# Altium integrated library myIntegratedLibrary1.IntLib: 24 symbols
Pins are listed as number, name and electrical type; pins without a type are passive.

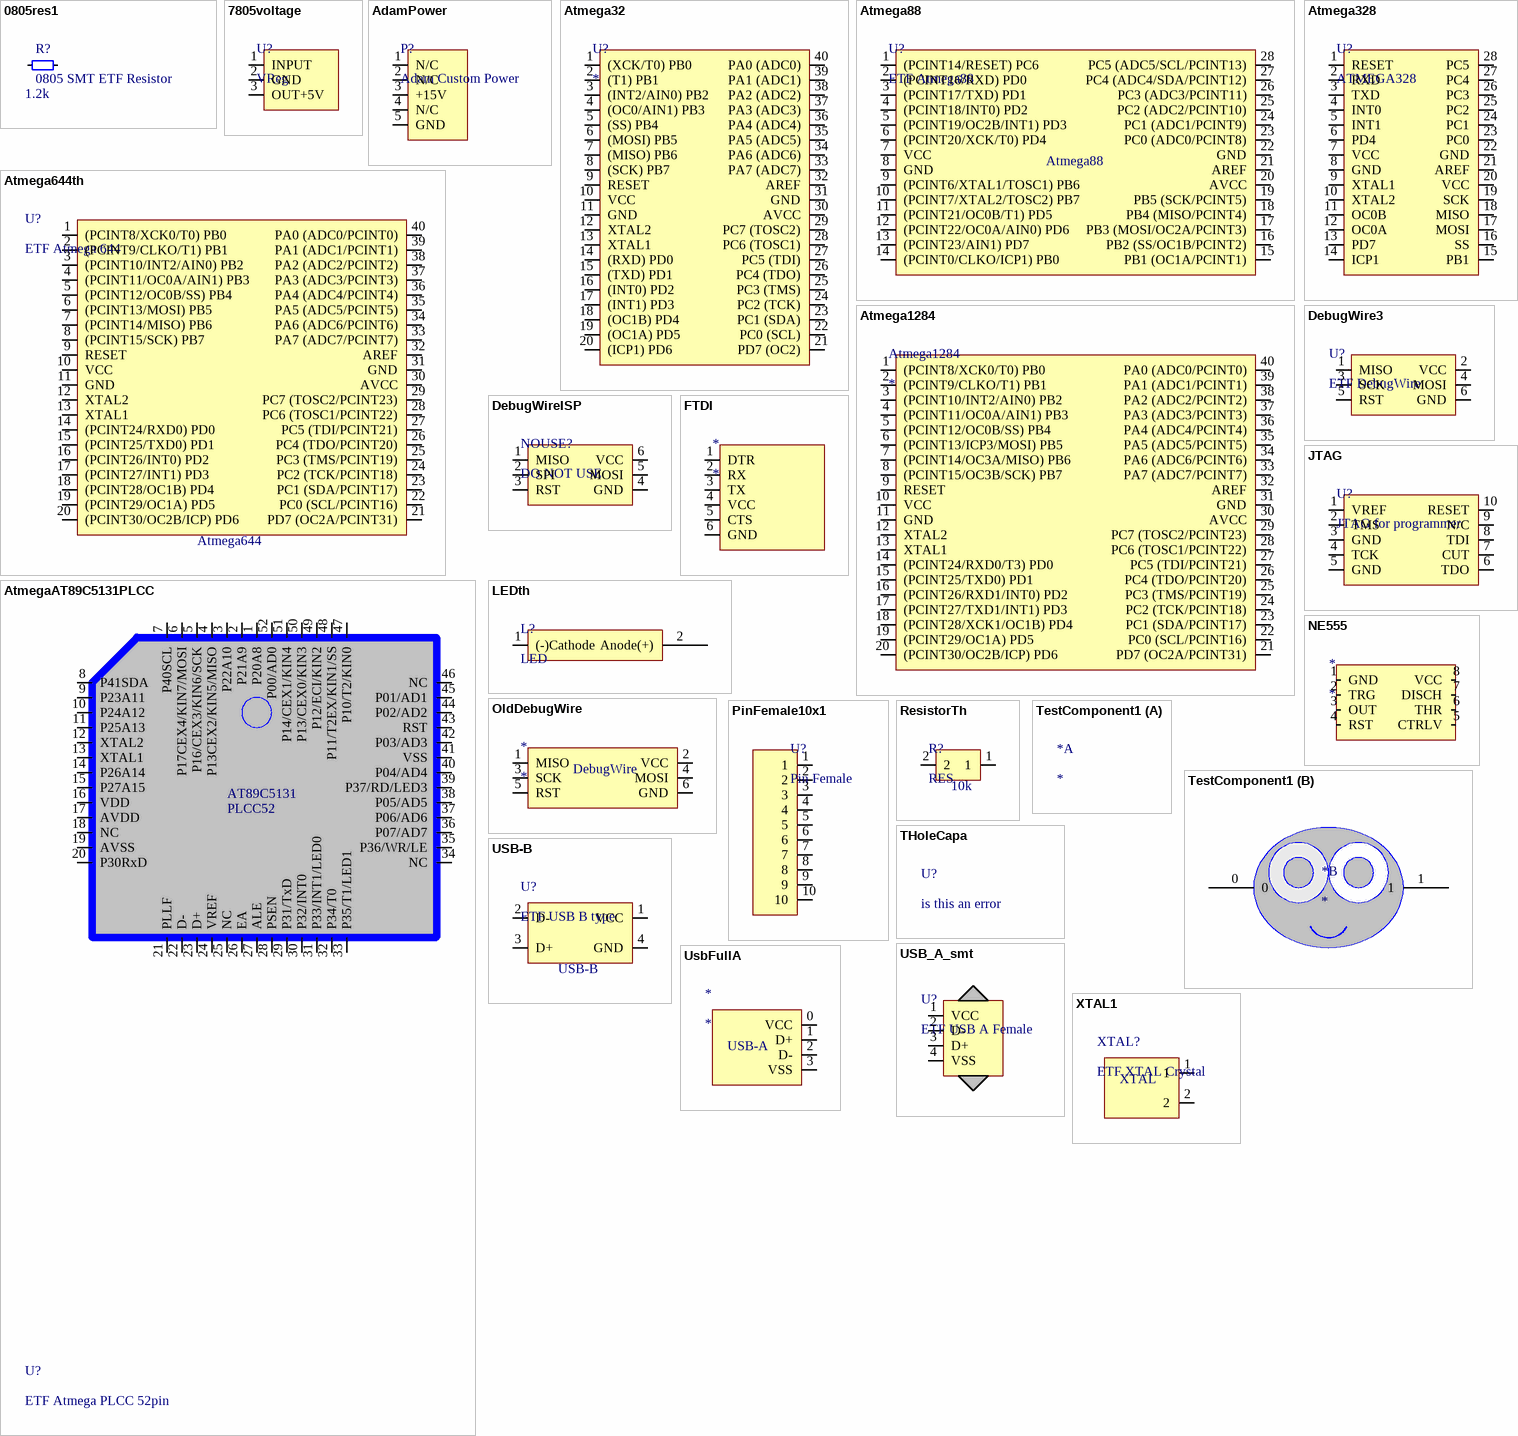
[diagram p0: symbols 0805res1 to XTAL1]

## 0805res1
designator R?, comment 0805 SMT ETF Resistor  value 1.2k
footprint 0805RES1
pins: 0, 1

## 7805voltage
designator U?, comment VReg
ETF Voltage Regulator
footprint 7805 (7805 Voltage Regulator)
pins: 1 INPUT, 2 GND, 3 OUT+5V

## AdamPower
designator P?, comment Adam Custom Power
Value: Adam Custom Power Connector ETF
footprint AdamPower (Adam Custom ETF Power Connector)
pins: 1 N/C, 2 N/C, 3 +15V, 4 N/C, 5 GND

## Atmega32
designator U?
Value: 16PI 0422B
footprint Atmega1284 (Atmega Cool Microcontroller Yo)
pins: 1 (XCK/T0) PB0, 2 (T1) PB1, 3 (INT2/AIN0) PB2, 4 (OC0/AIN1) PB3, 5 (SS) PB4, 6 (MOSI) PB5, 7 (MISO) PB6, 8 (SCK) PB7, 9 RESET, 10 VCC, 11 GND, 12 XTAL2, 13 XTAL1, 14 (RXD) PD0, 15 (TXD) PD1, 16 (INT0) PD2, 17 (INT1) PD3, 18 (OC1B) PD4, 19 (OC1A) PD5, 20 (ICP1) PD6, 21 PD7 (OC2), 22 PC0 (SCL), 23 PC1 (SDA), 24 PC2 (TCK), 25 PC3 (TMS), 26 PC4 (TDO), 27 PC5 (TDI), 28 PC6 (TOSC1), 29 PC7 (TOSC2), 30 AVCC, 31 GND, 32 AREF, 33 PA7 (ADC7), 34 PA6 (ADC6), 35 PA5 (ADC5), 36 PA4 (ADC4), 37 PA3 (ADC3), 38 PA2 (ADC2), 39 PA1 (ADC1), 40 PA0 (ADC0)

## Atmega88
designator U?, comment ETF Atmega88
ETF Atmega 88
footprint ATMEGA328
pins: 1 (PCINT14/RESET) PC6, 2 (PCINT16/RXD) PD0, 3 (PCINT17/TXD) PD1, 4 (PCINT18/INT0) PD2, 5 (PCINT19/OC2B/INT1) PD3, 6 (PCINT20/XCK/T0) PD4, 7 VCC, 8 GND, 9 (PCINT6/XTAL1/TOSC1) PB6, 10 (PCINT7/XTAL2/TOSC2) PB7, 11 (PCINT21/OC0B/T1) PD5, 12 (PCINT22/OC0A/AIN0) PD6, 13 (PCINT23/AIN1) PD7, 14 (PCINT0/CLKO/ICP1) PB0, 15 PB1 (OC1A/PCINT1), 16 PB2 (SS/OC1B/PCINT2), 17 PB3 (MOSI/OC2A/PCINT3), 18 PB4 (MISO/PCINT4), 19 PB5 (SCK/PCINT5), 20 AVCC, 21 AREF, 22 GND, 23 PC0 (ADC0/PCINT8), 24 PC1 (ADC1/PCINT9), 25 PC2 (ADC2/PCINT10), 26 PC3 (ADC3/PCINT11), 27 PC4 (ADC4/SDA/PCINT12), 28 PC5 (ADC5/SCL/PCINT13)

## Atmega328
designator U?, comment ATMEGA328
Value: default
footprint ATMEGA328
pins: 1 RESET, 2 RXD, 3 TXD, 4 INT0, 5 INT1, 6 PD4, 7 VCC, 8 GND, 9 XTAL1, 10 XTAL2, 11 OC0B, 12 OC0A, 13 PD7, 14 ICP1, 15 PB1, 16 SS, 17 MOSI, 18 MISO, 19 SCK, 20 VCC, 21 AREF, 22 GND, 23 PC0, 24 PC1, 25 PC2, 26 PC3, 27 PC4, 28 PC5

## Atmega644th
designator U?, comment ETF Atmega 644
Mouser: 556-ATMEGA644PV10PU
footprint DIP40 (Pitch - 2.54 mm x 15.24mm)
pins: 1 (PCINT8/XCK0/T0) PB0, 2 (PCINT9/CLKO/T1) PB1, 3 (PCINT10/INT2/AIN0) PB2, 4 (PCINT11/OC0A/AIN1) PB3, 5 (PCINT12/OC0B/SS) PB4, 6 (PCINT13/MOSI) PB5, 7 (PCINT14/MISO) PB6, 8 (PCINT15/SCK) PB7, 9 RESET, 10 VCC, 11 GND, 12 XTAL2, 13 XTAL1, 14 (PCINT24/RXD0) PD0, 15 (PCINT25/TXD0) PD1, 16 (PCINT26/INT0) PD2, 17 (PCINT27/INT1) PD3, 18 (PCINT28/OC1B) PD4, 19 (PCINT29/OC1A) PD5, 20 (PCINT30/OC2B/ICP) PD6, 21 PD7 (OC2A/PCINT31), 22 PC0 (SCL/PCINT16), 23 PC1 (SDA/PCINT17), 24 PC2 (TCK/PCINT18), 25 PC3 (TMS/PCINT19), 26 PC4 (TDO/PCINT20), 27 PC5 (TDI/PCINT21), 28 PC6 (TOSC1/PCINT22), 29 PC7 (TOSC2/PCINT23), 30 AVCC, 31 GND, 32 AREF, 33 PA7 (ADC7/PCINT7), 34 PA6 (ADC6/PCINT6), 35 PA5 (ADC5/PCINT5), 36 PA4 (ADC4/PCINT4), 37 PA3 (ADC3/PCINT3), 38 PA2 (ADC2/PCINT2), 39 PA1 (ADC1/PCINT1), 40 PA0 (ADC0/PCINT0)
text: Atmega644

## Atmega1284
designator Atmega1284
footprint Atmega1284 (Atmega Cool Microcontroller Yo)
pins: 1 (PCINT8/XCK0/T0) PB0, 2 (PCINT9/CLKO/T1) PB1, 3 (PCINT10/INT2/AIN0) PB2, 4 (PCINT11/OC0A/AIN1) PB3, 5 (PCINT12/OC0B/SS) PB4, 6 (PCINT13/ICP3/MOSI) PB5, 7 (PCINT14/OC3A/MISO) PB6, 8 (PCINT15/OC3B/SCK) PB7, 9 RESET, 10 VCC, 11 GND, 12 XTAL2, 13 XTAL1, 14 (PCINT24/RXD0/T3) PD0, 15 (PCINT25/TXD0) PD1, 16 (PCINT26/RXD1/INT0) PD2, 17 (PCINT27/TXD1/INT1) PD3, 18 (PCINT28/XCK1/OC1B) PD4, 19 (PCINT29/OC1A) PD5, 20 (PCINT30/OC2B/ICP) PD6, 21 PD7 (OC2A/PCINT31), 22 PC0 (SCL/PCINT16), 23 PC1 (SDA/PCINT17), 24 PC2 (TCK/PCINT18), 25 PC3 (TMS/PCINT19), 26 PC4 (TDO/PCINT20), 27 PC5 (TDI/PCINT21), 28 PC6 (TOSC1/PCINT22), 29 PC7 (TOSC2/PCINT23), 30 AVCC, 31 GND, 32 AREF, 33 PA7 (ADC7/PCINT7), 34 PA6 (ADC6/PCINT6), 35 PA5 (ADC5/PCINT5), 36 PA4 (ADC4/PCINT4), 37 PA3 (ADC3/PCINT3), 38 PA2 (ADC2/PCINT2), 39 PA1 (ADC1/PCINT1), 40 PA0 (ADC0/PCINT0)

## AtmegaAT89C5131PLCC
designator U?, comment ETF Atmega PLCC 52pin
footprint PLCC52
pins: 1 P20A8, 2 P21A9, 3 P22A10, 4 P13CEX2/KIN5/MISO, 5 P16/CEX3/KIN6/SCK, 6 P17CEX4/KIN7/MOSI, 7 P40SCL, 8 P41SDA, 9 P23A11, 10 P24A12, 11 P25A13, 12 XTAL2, 13 XTAL1, 14 P26A14, 15 P27A15, 16 VDD, 17 AVDD, 18 NC, 19 AVSS, 20 P30RxD, 21 PLLF, 22 D-, 23 D+, 24 VREF, 25 NC, 26 EA, 27 ALE, 28 PSEN, 29 P31/TxD, 30 P32/INT0, 31 P33/INT1/LED0, 32 P34/T0, 33 P35/T1/LED1, 34 NC, 35 P36/WR/LE, 36 P07/AD7, 37 P06/AD6, 38 P05/AD5, 39 P37/RD/LED3, 40 P04/AD4, 41 VSS, 42 P03/AD3, 43 RST, 44 P02/AD2, 45 P01/AD1, 46 NC, 47 P10/T2/KIN0, 48 P11/T2EX/KIN1/SS, 49 P12/ECI/KIN2, 50 P13/CEX0/KIN3, 51 P14/CEX1/KIN4, 52 P00/AD0
text: AT89C5131; PLCC52

## DebugWire3
designator U?, comment ETF DebugWire
Value: ETF DebugWire
footprint 6x2pinheader (ETF 6x2 pin header)
pins: 1 MISO, 2 VCC, 3 SCK, 4 MOSI, 5 RST, 6 GND

## DebugWireISP
designator NOUSE?, comment DO NOT USE
Do not use, please use DebugWire3 instead
footprint 6x2pinheader (ETF 6x2 pin header)
pins: 1 MISO, 2 SPI, 3 RST, 4 GND, 5 MOSI, 6 VCC

## FTDI
designator *
footprint FTDI
pins: 1 DTR, 2 RX, 3 TX, 4 VCC, 5 CTS, 6 GND

## JTAG
designator U?, comment JTAG for programmer
Value: ETF Jtag
footprint JTAG
pins: 1 VREF, 2 TMS, 3 GND, 4 TCK, 5 GND, 6 TDO, 7 CUT, 8 TDI, 9 N/C, 10 RESET

## LEDth
designator L?, comment LED
Value: Red
footprint LEDth
pins: 1 (-)Cathode, 2 Anode(+)

## NE555
designator *
footprint NE555 (ETF NE555)
pins: 1 GND, 2 TRG, 3 OUT, 4 RST, 5 CTRLV, 6 THR, 7 DISCH, 8 VCC

## OldDebugWire
designator *
footprint 6x2pinheader (ETF 6x2 pin header)
pins: 1 MISO, 2 VCC, 3 SCK, 4 MOSI, 5 RST, 6 GND
text: DebugWire

## PinFemale10x1
designator U?, comment Pin Female
footprint PINFEM10X1 (Pin Female Header 10x1)
pins: 1, 2, 3, 4, 5, 6, 7, 8, 9, 10

## ResistorTh
designator R?, comment RES  value 10k
footprint RESth
pins: 1, 2

## TestComponent1
designator *
footprint TestPcbComponent1
part B pins: 0, 1

## THoleCapa
designator U?, comment is this an error

## USB-B
designator U?, comment ETF USB B type
Value: Yes
footprint USB-B (ETF USB port type B)
pins: 1 VCC, 2 D-, 3 D+, 4 GND

## USB_A_smt
designator U?, comment ETF USB A Female
footprint USBASMTFEM
pins: 1 VCC, 2 D-, 3 D+, 4 VSS

## UsbFullA
designator *
pins: 0 VCC, 1 D+, 2 D-, 3 VSS
text: USB-A

## XTAL1
designator XTAL?, comment ETF XTAL Crystal
Value: ETF Crystal
footprint XTAL1 (Cristal Oscillator ETF)
pins: 1, 2
text: XTAL